# Altium footprint library CodeBlock.PcbLib: 12 footprints
Each footprint in its own frame and in the unit in brackets; x right, y up, seen from the top. Pads: shape width x height; smd on the part's side, far side on the other; paste and mask are expansions set on the pad; w line width, h text height; cw(c..) or ccw(c..) is an arc to the next point about the centre after c.
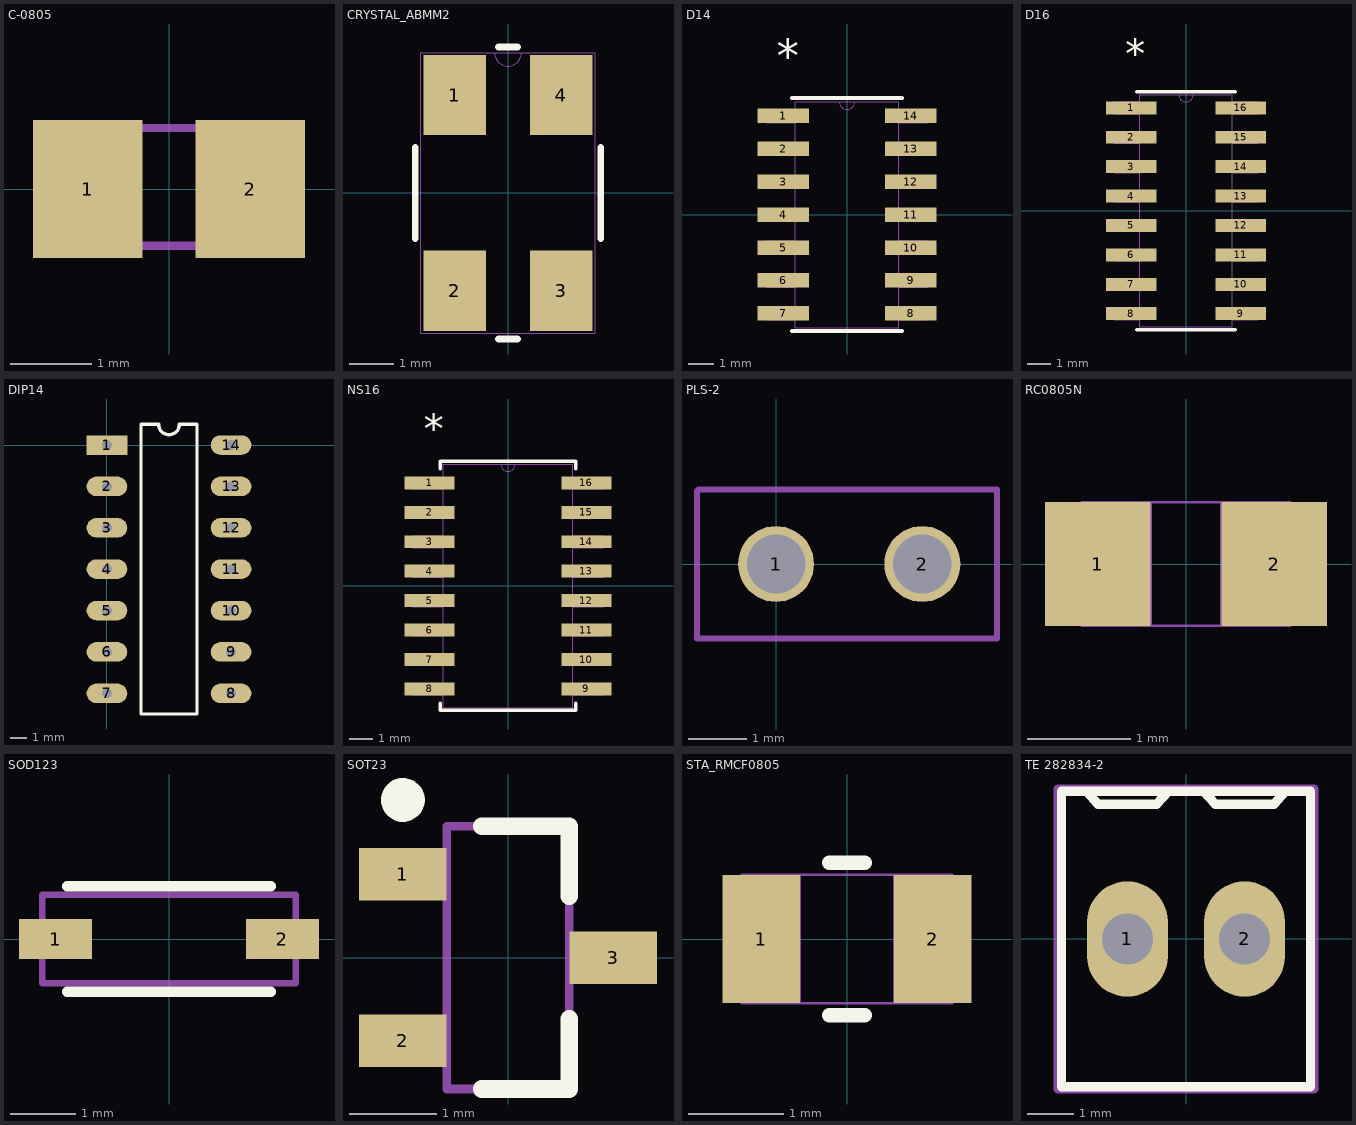
[diagram p0: the footprints below, top view; thin cyan lines are the x and y axes]

## C-0805 [mm] "capacitor 0805"
pads (2):
  rect 1.35x1.7 smd: 1(-1,0) 2(1,0)
Mechanical 2:
  lines w0.1: -1.125,-0.7 1.1,-0.7 1.1,0.75 -1.125,0.75 -1.125,-0.7
3D body "C0805.step": height 0.88, standoff 0, extent -1.1,-0.715 1.1,0.735

## CRYSTAL_ABMM2 [mil]
pads (4):
  rect 55x71 smd paste+0 mask+0: 1(-47,86.5) 2(-47,-86.5) 3(47,-86.5) 4(47,86.5)
Top Overlay:
  lines w6: -82,-40.26 -82,40.26 ; -8.43,-129 8.43,-129 ; -8.43,129 8.43,129 ; 82,-40.26 82,40.26
Mechanical 2:
  lines w0: -12,124 ccw(c0,124) 12,124
  lines w1: -77,-124 -77,124 77,124 77,-124 -77,-124
3D body "CRYSTAL_ABMM2.step": height 48.11, standoff 0, extent -79.01,-124.01 79.02,124.02

## D14 [mil]
pads (14):
  rect 78x22 smd paste+0 mask+0: 1(-97,150) 2(-97,100) 3(-97,50) 4(-97,0) 5(-97,-50) 6(-97,-100) 7(-97,-150) 8(97,-150) 9(97,-100) 10(97,-50) 11(97,0) 12(97,50) 13(97,100) 14(97,150)
Top Overlay:
  lines w6: -83.5,-177 83.5,-177 ; -83.5,177 83.5,177
  text "*" at -107,217 h50
Mechanical 2:
  lines w0: -12,172 ccw(c0,172) 12,172
  lines w1: -122,-160 -78.5,-160 -78.5,-140 -122,-140 -122,-160 ; -122,-110 -78.5,-110 -78.5,-90 -122,-90 -122,-110 ; -122,-60 -78.5,-60 -78.5,-40 -122,-40 -122,-60 ; -122,-10 -78.5,-10 -78.5,10 -122,10 -122,-10 ; -122,40 -78.5,40 -78.5,60 -122,60 -122,40 ; -122,90 -78.5,90 -78.5,110 -122,110 -122,90 ; -122,140 -78.5,140 -78.5,160 -122,160 -122,140 ; -78.5,-172 -78.5,172 78.5,172 78.5,-172 -78.5,-172 ; 78.5,-160 122,-160 122,-140 78.5,-140 78.5,-160 ; 78.5,-110 122,-110 122,-90 78.5,-90 78.5,-110 ; 78.5,-60 122,-60 122,-40 78.5,-40 78.5,-60 ; 78.5,-10 122,-10 122,10 78.5,10 78.5,-10 ; 78.5,40 122,40 122,60 78.5,60 78.5,40 ; 78.5,90 122,90 122,110 78.5,110 78.5,90 ; 78.5,140 122,140 122,160 78.5,160 78.5,140
3D body "D14.step": height 69.09, standoff 0, extent -122,-172 122.01,172.01

## D16 [mil]
pads (16):
  rect 86x22 smd paste+0 mask+0: 1(-93,175) 2(-93,125) 3(-93,75) 4(-93,25) 5(-93,-25) 6(-93,-75) 7(-93,-125) 8(-93,-175) 9(93,-175) 10(93,-125) 11(93,-75) 12(93,-25) 13(93,25) 14(93,75) 15(93,125) 16(93,175)
Top Overlay:
  lines w6: -83.5,-202 83.5,-202 ; -83.5,202 83.5,202
  text "*" at -103,242 h50
Mechanical 2:
  lines w0: -12,197 ccw(c0,197) 12,197
  lines w1: -122,-185 -122,-165 -78.5,-165 -78.5,-185 -122,-185 ; -122,-135 -122,-115 -78.5,-115 -78.5,-135 -122,-135 ; -122,-85 -122,-65 -78.5,-65 -78.5,-85 -122,-85 ; -122,-35 -122,-15 -78.5,-15 -78.5,-35 -122,-35 ; -122,15 -122,35 -78.5,35 -78.5,15 -122,15 ; -122,65 -122,85 -78.5,85 -78.5,65 -122,65 ; -122,115 -122,135 -78.5,135 -78.5,115 -122,115 ; -122,165 -122,185 -78.5,185 -78.5,165 -122,165 ; -78.5,-197 78.5,-197 78.5,197 -78.5,197 -78.5,-197 ; 78.5,-185 78.5,-165 122,-165 122,-185 78.5,-185 ; 78.5,-135 78.5,-115 122,-115 122,-135 78.5,-135 ; 78.5,-85 78.5,-65 122,-65 122,-85 78.5,-85 ; 78.5,-35 78.5,-15 122,-15 122,-35 78.5,-35 ; 78.5,15 78.5,35 122,35 122,15 78.5,15 ; 78.5,65 78.5,85 122,85 122,65 78.5,65 ; 78.5,115 78.5,135 122,135 122,115 78.5,115 ; 78.5,165 78.5,185 122,185 122,165 78.5,165
3D body "D16.step": height 69.09, standoff 0, extent -122,-197 122.01,197.01

## DIP14 [mm]
pads (14):
  rect 2.5x1.2 hole 0.6: 1(0,0)
  oval 2.5x1.2 hole 0.6: 2(0,-2.54) 3(0,-5.08) 4(0,-7.62) 5(0,-10.16) 6(0,-12.7) 7(0,-15.24) 8(7.62,-15.24) 9(7.62,-12.7) 10(7.62,-10.16) 11(7.62,-7.62) 12(7.62,-5.08) 13(7.62,-2.54) 14(7.62,0)
Top Overlay:
  lines w0.2: 2.085,-16.51 2.085,1.27 3.175,1.27 ccw(c3.81,1.27) 4.445,1.27 5.535,1.27 5.535,-16.51 2.085,-16.51
3D body: height 7.36, standoff 3, extent 1.5,-16.5 6,1.5

## NS16 [mil]
pads (16):
  rect 85x22 smd paste+0 mask+0: 1(-133,175) 2(-133,125) 3(-133,75) 4(-133,25) 5(-133,-25) 6(-133,-75) 7(-133,-125) 8(-133,-175) 9(133,-175) 10(133,-125) 11(133,-75) 12(133,-25) 13(133,25) 14(133,75) 15(133,125) 16(133,175)
Top Overlay:
  lines w6: -115,-199.1 -115,-211.5 115,-211.5 115,-199.1 ; -115,199.1 -115,211.5 115,211.5 115,199.1
  text "*" at -143,242 h50
Mechanical 2:
  lines w0: -12,206.5 ccw(c0,206.5) 12,206.5
  lines w1: -161.5,-185 -161.5,-165 -110,-165 -110,-185 -161.5,-185 ; -161.5,-135 -161.5,-115 -110,-115 -110,-135 -161.5,-135 ; -161.5,-85 -161.5,-65 -110,-65 -110,-85 -161.5,-85 ; -161.5,-35 -161.5,-15 -110,-15 -110,-35 -161.5,-35 ; -161.5,15 -161.5,35 -110,35 -110,15 -161.5,15 ; -161.5,65 -161.5,85 -110,85 -110,65 -161.5,65 ; -161.5,115 -161.5,135 -110,135 -110,115 -161.5,115 ; -161.5,165 -161.5,185 -110,185 -110,165 -161.5,165 ; -110,-206.5 110,-206.5 110,206.5 -110,206.5 -110,-206.5 ; 110,-185 110,-165 161.5,-165 161.5,-185 110,-185 ; 110,-135 110,-115 161.5,-115 161.5,-135 110,-135 ; 110,-85 110,-65 161.5,-65 161.5,-85 110,-85 ; 110,-35 110,-15 161.5,-15 161.5,-35 110,-35 ; 110,15 110,35 161.5,35 161.5,15 110,15 ; 110,65 110,85 161.5,85 161.5,65 110,65 ; 110,115 110,135 161.5,135 161.5,115 110,115 ; 110,165 110,185 161.5,185 161.5,165 110,165
3D body "NS16.step": height 79.09, standoff 0, extent -161.49,-206.49 161.5,206.5

## PLS-2 [mm]
pads (2):
  round 1.3 hole 1: 1(0,0) 2(2.5,0)
Mechanical 2:
  lines w0.1: -1.35,-1.275 3.775,-1.275 3.775,1.275 -1.325,1.275 -1.35,1.25 -1.35,-1.275
3D body "pls-2.stp": height 8.47, standoff -3.07, extent -1.31,-1.27 3.77,1.27

## RC0805N [mil]
pads (2):
  rect 40x47 smd paste+0 mask+0: 1(-33.5,0) 2(33.5,0)
Mechanical 2:
  lines w1: -39.5,-23.5 -39.5,23.5 ; -39.5,-23.5 -13.5,-23.5 -13.5,23.5 -39.5,23.5 ; -39.5,-23.5 39.5,-23.5 ; -39.5,-23.5 -39.5,23.5 ; -39.5,23.5 39.5,23.5 ; 39.5,-23.5 13.5,-23.5 13.5,23.5 39.5,23.5 ; 39.5,-23.5 39.5,23.5 ; 39.5,-23.5 39.5,23.5
3D body "RC0805N.step": height 27.99, standoff 0, extent -39.48,-23.49 39.49,23.51

## SOD123 [mm]
pads (2):
  rect 1.111x0.601 smd: 1(-1.725,0) 2(1.725,0)
Top Overlay:
  lines w0.152: -1.552,-0.802 1.552,-0.802 ; -1.552,0.802 1.552,0.802
Mechanical 2:
  lines w0.1: -1.925,-0.675 1.925,-0.675 1.925,0.675 -1.925,0.675 -1.925,-0.675
3D body "SOD123.step": height 0.81, standoff 0, extent -1.925,-0.675 1.925,0.675

## SOT23 [mm] "SOT23, 3-Leads, Body 2,90x2,45mm, Pitch 0,95mm, IPC Medium Density"
height 1.1
pads (3):
  rect 1x0.6 smd: 1(-1.2,0.95) 2(-1.2,-0.95) 3(1.2,0)
Top Overlay:
  circle w0.25: c-1.2,1.8 r0.125
  lines w0.2: -0.3,-1.5 0.7,-1.5 0.7,-0.7 ; -0.3,1.5 0.7,1.5 0.7,0.7
Mechanical 2:
  lines w0.1: -0.7,-1.5 -0.7,1.5 0.7,1.5 0.7,-1.5 -0.7,-1.5
3D body "SOT95P245X110-3N.step": height 1.1, standoff 0, extent -1.3,-1.5 1.3,1.5

## STA_RMCF0805 [mil]
pads (2):
  rect 32x53 smd paste+0 mask+0: 1(-35.5,0) 2(35.5,0)
Top Overlay:
  lines w6: -7.39,-31.5 7.39,-31.5 ; -7.39,31.5 7.39,31.5
Mechanical 2:
  circle w0: c-30.5,0 r3
  lines w1: -43.5,-26.5 -43.5,26.5 ; -43.5,-26.5 -19.5,-26.5 -19.5,26.5 -43.5,26.5 ; -43.5,-26.5 43.5,-26.5 ; -43.5,-26.5 -43.5,26.5 ; -43.5,26.5 43.5,26.5 ; 43.5,-26.5 19.5,-26.5 19.5,26.5 43.5,26.5 ; 43.5,-26.5 43.5,26.5 ; 43.5,-26.5 43.5,26.5
3D body "STA_RMCF0805.step": height 25.98, standoff 0, extent -43.5,-26.49 43.51,26.51
3D body: height 10, standoff 0, extent -39.37,0 -39.37,0

## TE 282834-2 [mm]
height 10
pads (2):
  oval 1.75x2.5 hole 1.1: 1(-1.27,0) 2(1.27,0)
Top Overlay:
  lines w0.2: -2.159,3.2 -1.905,2.921 -0.635,2.921 -0.381,3.2 ; 0.381,3.2 0.635,2.921 1.905,2.921 2.159,3.2 ; -2.7,-3.2 -2.7,3.2 2.7,3.2 2.7,-3.2 -2.6,-3.2 -2.7,-3.2
Mechanical 2:
  lines w0.2: -2.77,-3.25 2.77,-3.25 2.77,3.25 -2.77,3.25 -2.77,-3.25
3D body "TE Term Block 2port 282834-2-c-3d.STEP": height 10, standoff -3.4, extent -2.77,-3.25 2.77,3.25